# Altium footprint library ADS1298IPAG.PcbLib: 3 footprints
Each footprint in its own frame and in the unit in brackets; x right, y up, seen from the top. Pads: shape width x height; smd on the part's side, far side on the other; paste and mask are expansions set on the pad; w line width, h text height; cw(c..) or ccw(c..) is an arc to the next point about the centre after c.
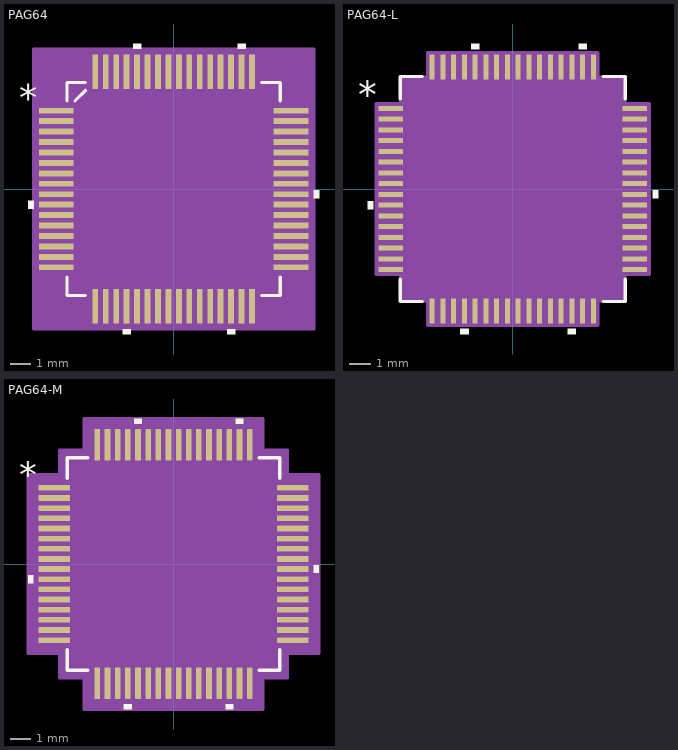
[diagram p0: the footprints below, top view; thin cyan lines are the x and y axes]

## PAG64 [mil]
pads (64):
  rect 65.5x11 smd paste-32.75 mask-33: 1(-221.25,147.64) 2(-221.25,127.95) 3(-221.25,108.27) 4(-221.25,88.58) 5(-221.25,68.9) 6(-221.25,49.21) 7(-221.25,29.53) 8(-221.25,9.84) 9(-221.25,-9.84) 10(-221.25,-29.53) 11(-221.25,-49.21) 12(-221.25,-68.9) 13(-221.25,-88.58) 14(-221.25,-108.27) 15(-221.25,-127.95) 16(-221.25,-147.64) 33(221.25,-147.64) 34(221.25,-127.95) 35(221.25,-108.27) 36(221.25,-88.58) 37(221.25,-68.9) 38(221.25,-49.21) 39(221.25,-29.53) 40(221.25,-9.84) 41(221.25,9.84) 42(221.25,29.53) 43(221.25,49.21) 44(221.25,68.9) 45(221.25,88.58) 46(221.25,108.27) 47(221.25,127.95) 48(221.25,147.64)
  rect 11x65.5 smd paste-32.75 mask-33: 17(-147.64,-221.25) 18(-127.95,-221.25) 19(-108.27,-221.25) 20(-88.58,-221.25) 21(-68.9,-221.25) 22(-49.21,-221.25) 23(-29.53,-221.25) 24(-9.84,-221.25) 25(9.84,-221.25) 26(29.53,-221.25) 27(49.21,-221.25) 28(68.9,-221.25) 29(88.58,-221.25) 30(108.27,-221.25) 31(127.95,-221.25) 32(147.64,-221.25) 49(147.64,221.25) 50(127.95,221.25) 51(108.27,221.25) 52(88.58,221.25) 53(68.9,221.25) 54(49.21,221.25) 55(29.53,221.25) 56(9.84,221.25) 57(-9.84,221.25) 58(-29.53,221.25) 59(-49.21,221.25) 60(-68.9,221.25) 61(-88.58,221.25) 62(-108.27,221.25) 63(-127.95,221.25) 64(-147.64,221.25)
Top Overlay:
  region: -264,-22.03 -274,-22.03 -274,-37.03 -264,-37.03
  region: -81.08,-264 -96.08,-264 -96.08,-274 -81.08,-274
  region: 115.77,-264 100.77,-264 100.77,-274 115.77,-274
  region: 264,-2.34 274,-2.34 274,-17.34 264,-17.34
  region: 135.45,264 120.45,264 120.45,274 135.45,274
  region: -61.4,264 -76.4,264 -76.4,274 -61.4,274
  lines w6: -201,-166.24 -201,-201 -166.24,-201 ; -201,166.24 -201,201 -166.24,201 ; -186,166 -166,186 ; 166.24,-201 201,-201 201,-166.24 ; 166.24,201 201,201 201,166.24
  text "*" at -291.5,147.48 h50
  text ".Designator" at -137.5,-25 h50
Mechanical 13:
  drawing of 265 lines, arcs and shapes, not listed
  text ".Designator" at -137.5,-25 h50
  text "*" at -291.5,147.48 h50
Mechanical 15:
  region: 264,-264 -264,-264 -264,264 264,264
  lines w6: -264,-264 -264,264 264,264 264,-264 -264,-264
3D body "PAG64.step": height 47.09, standoff 0, extent -240,-240 240,240

## PAG64-L [mil]
pads (64):
  rect 45x9 smd paste+0 mask+0: 1(-223.5,147.64) 2(-223.5,127.95) 3(-223.5,108.27) 4(-223.5,88.58) 5(-223.5,68.9) 6(-223.5,49.21) 7(-223.5,29.53) 8(-223.5,9.84) 9(-223.5,-9.84) 10(-223.5,-29.53) 11(-223.5,-49.21) 12(-223.5,-68.9) 13(-223.5,-88.58) 14(-223.5,-108.27) 15(-223.5,-127.95) 16(-223.5,-147.64) 33(223.5,-147.64) 34(223.5,-127.95) 35(223.5,-108.27) 36(223.5,-88.58) 37(223.5,-68.9) 38(223.5,-49.21) 39(223.5,-29.53) 40(223.5,-9.84) 41(223.5,9.84) 42(223.5,29.53) 43(223.5,49.21) 44(223.5,68.9) 45(223.5,88.58) 46(223.5,108.27) 47(223.5,127.95) 48(223.5,147.64)
  rect 9x45 smd paste+0 mask+0: 17(-147.64,-223.5) 18(-127.95,-223.5) 19(-108.27,-223.5) 20(-88.58,-223.5) 21(-68.9,-223.5) 22(-49.21,-223.5) 23(-29.53,-223.5) 24(-9.84,-223.5) 25(9.84,-223.5) 26(29.53,-223.5) 27(49.21,-223.5) 28(68.9,-223.5) 29(88.58,-223.5) 30(108.27,-223.5) 31(127.95,-223.5) 32(147.64,-223.5) 49(147.64,223.5) 50(127.95,223.5) 51(108.27,223.5) 52(88.58,223.5) 53(68.9,223.5) 54(49.21,223.5) 55(29.53,223.5) 56(9.84,223.5) 57(-9.84,223.5) 58(-29.53,223.5) 59(-49.21,223.5) 60(-68.9,223.5) 61(-88.58,223.5) 62(-108.27,223.5) 63(-127.95,223.5) 64(-147.64,223.5)
Top Overlay:
  region: -256,-22.03 -266,-22.03 -266,-37.03 -256,-37.03
  region: -81.08,-256 -96.08,-256 -96.08,-266 -81.08,-266
  region: 115.77,-256 100.77,-256 100.77,-266 115.77,-266
  region: 256,-2.34 266,-2.34 266,-17.34 256,-17.34
  region: 135.45,256 120.45,256 120.45,266 135.45,266
  region: -61.4,256 -76.4,256 -76.4,266 -61.4,266
  lines w6: -206,-165.24 -206,-206 -165.24,-206 ; -206,165.24 -206,206 -165.24,206 ; 165.24,-206 206,-206 206,-165.24 ; 165.24,206 206,206 206,165.24
  text "*" at -283.5,147.48 h50
  text ".Designator" at -137.5,-25 h50
Mechanical 13:
  drawing of 261 lines, arcs and shapes, not listed
  text ".Designator" at -137.5,-25 h50
  text "*" at -198.5,132.48 h50
Mechanical 15:
  region: -156.14,-205 -205,-205 -205,-156.14 -250,-156.14 -250,156.14 -205,156.14 -205,205 -156.14,205 -156.14,250 156.14,250 156.14,205 205,205 205,156.14 250,156.14 250,-156.14 205,-156.14 205,-205 156.14,-205 156.14,-250 -156.14,-250
  lines w6: -250,-156.14 -205,-156.14 -205,-205 -156.14,-205 -156.14,-250 156.14,-250 156.14,-205 205,-205 205,-156.14 250,-156.14 250,156.14 205,156.14 205,205 156.14,205 156.14,250 -156.14,250 -156.14,205 -205,205 -205,156.14 -250,156.14 -250,-156.14
3D body "PAG64.step": height 47.09, standoff 0, extent -240,-240 240,240

## PAG64-M [mil]
pads (64):
  rect 61x11 smd paste+0 mask+0: 1(-231.5,147.64) 2(-231.5,127.95) 3(-231.5,108.27) 4(-231.5,88.58) 5(-231.5,68.9) 6(-231.5,49.21) 7(-231.5,29.53) 8(-231.5,9.84) 9(-231.5,-9.84) 10(-231.5,-29.53) 11(-231.5,-49.21) 12(-231.5,-68.9) 13(-231.5,-88.58) 14(-231.5,-108.27) 15(-231.5,-127.95) 16(-231.5,-147.64) 33(231.5,-147.64) 34(231.5,-127.95) 35(231.5,-108.27) 36(231.5,-88.58) 37(231.5,-68.9) 38(231.5,-49.21) 39(231.5,-29.53) 40(231.5,-9.84) 41(231.5,9.84) 42(231.5,29.53) 43(231.5,49.21) 44(231.5,68.9) 45(231.5,88.58) 46(231.5,108.27) 47(231.5,127.95) 48(231.5,147.64)
  rect 11x61 smd paste+0 mask+0: 17(-147.64,-231.5) 18(-127.95,-231.5) 19(-108.27,-231.5) 20(-88.58,-231.5) 21(-68.9,-231.5) 22(-49.21,-231.5) 23(-29.53,-231.5) 24(-9.84,-231.5) 25(9.84,-231.5) 26(29.53,-231.5) 27(49.21,-231.5) 28(68.9,-231.5) 29(88.58,-231.5) 30(108.27,-231.5) 31(127.95,-231.5) 32(147.64,-231.5) 49(147.64,231.5) 50(127.95,231.5) 51(108.27,231.5) 52(88.58,231.5) 53(68.9,231.5) 54(49.21,231.5) 55(29.53,231.5) 56(9.84,231.5) 57(-9.84,231.5) 58(-29.53,231.5) 59(-49.21,231.5) 60(-68.9,231.5) 61(-88.58,231.5) 62(-108.27,231.5) 63(-127.95,231.5) 64(-147.64,231.5)
Top Overlay:
  region: -272,-22.03 -282,-22.03 -282,-37.03 -272,-37.03
  region: -81.08,-272 -96.08,-272 -96.08,-282 -81.08,-282
  region: 115.77,-272 100.77,-272 100.77,-282 115.77,-282
  region: 272,-2.34 282,-2.34 282,-17.34 272,-17.34
  region: 135.45,272 120.45,272 120.45,282 135.45,282
  region: -61.4,272 -76.4,272 -76.4,282 -61.4,282
  lines w6: -206,-166.24 -206,-206 -166.24,-206 ; -206,166.24 -206,206 -166.24,206 ; 166.24,-206 206,-206 206,-166.24 ; 166.24,206 206,206 206,166.24
  text "*" at -299.5,147.48 h50
  text ".Designator" at -137.5,-25 h50
Mechanical 13:
  drawing of 261 lines, arcs and shapes, not listed
  text ".Designator" at -137.5,-25 h50
  text "*" at -198.5,132.48 h50
Mechanical 15:
  region: -173.14,-221 -221,-221 -221,-173.14 -282,-173.14 -282,173.14 -221,173.14 -221,221 -173.14,221 -173.14,282 173.14,282 173.14,221 221,221 221,173.14 282,173.14 282,-173.14 221,-173.14 221,-221 173.14,-221 173.14,-282 -173.14,-282
  lines w6: -282,-173.14 -221,-173.14 -221,-221 -173.14,-221 -173.14,-282 173.14,-282 173.14,-221 221,-221 221,-173.14 282,-173.14 282,173.14 221,173.14 221,221 173.14,221 173.14,282 -173.14,282 -173.14,221 -221,221 -221,173.14 -282,173.14 -282,-173.14
3D body "PAG64.step": height 47.09, standoff 0, extent -240,-240 240,240